# EAGLE library part RJ45_CONNECTOR (library Connectors)
CONN MOD JACK 8P8C R/A SHIELDED
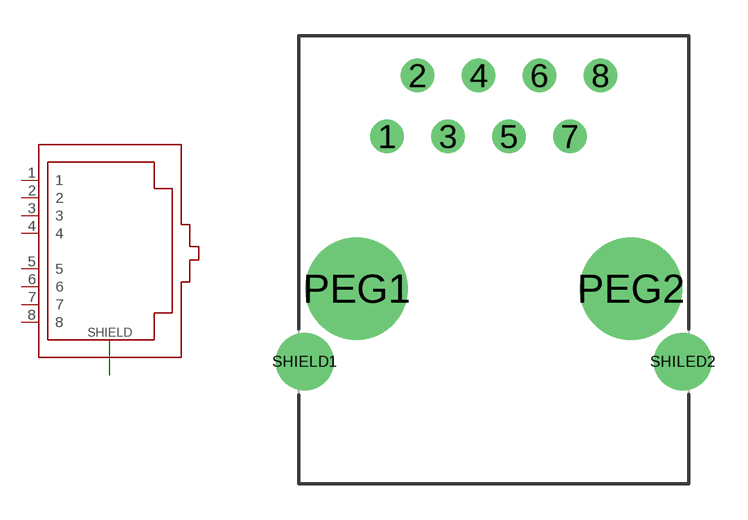
[diagram p24: symbol with the pads of 5555153-1; footprint 5555153-1]

Designator prefix CON

## RJ45_CONNECTOR (COMPEL: http://www.compel.ru/infosheet/TE/5555153-1/; DIGIKEY#: A31438-ND; MANF: TE Connectivity; MANF#: 5555153-1)  [5555153-1]
1  1
2  2
3  3
4  4
5  5
6  6
7  7  nc
8  8  sup
PEG1  SHILED  sup
PEG2  SHILED  sup
SHIELD1  SHILED  sup
SHILED2  SHILED  sup

## Footprint 5555153-1 (pad centres in mm)
http://www.te.com/usa-en/product-5555153-1.html
drill 0.9: 1 -4.445,0; 2 -3.175,2.54; 3 -1.905,0; 4 -0.635,2.54; 5 0.635,0; 6 1.905,2.54; 7 3.175,0; 8 4.445,2.54
drill 3.25: PEG1 -5.715,-6.35; PEG2 5.715,-6.35
drill 1.6: SHIELD1 -7.875,-9.4; SHILED2 7.875,-9.4